# EAGLE library part ?M08B-SR (library con-jst)
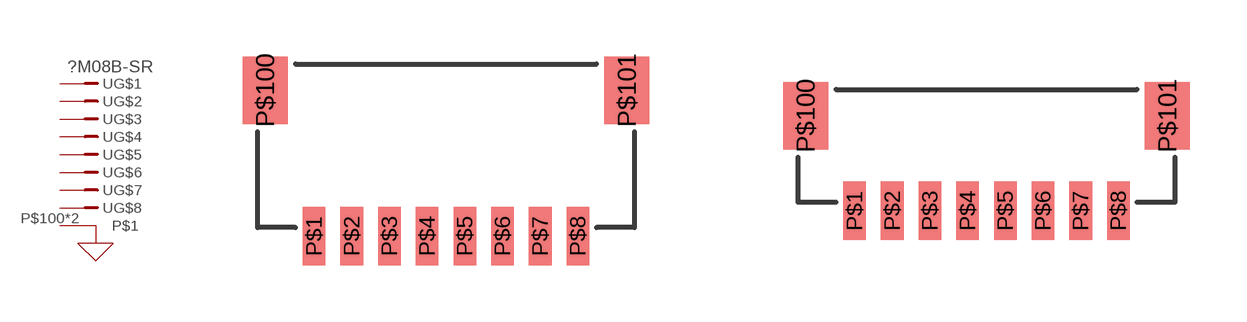
[diagram p27: symbol with the pads of SM08B-SR; footprints SM08B-SR, BM08B-SR]

Designator prefix -; gates G$1=PM-VN G$2=PM-N G$3=PM-N G$4=PM-N G$5=PM-N G$6=PM-N G$7=PM-N G$8=PM-N G$9=FRAME

## SM08B-SR  [SM08B-SR]
P$1  G$1:1  pas
P$2  G$2:1  pas
P$3  G$3:1  pas
P$4  G$4:1  pas
P$5  G$5:1  pas
P$6  G$6:1  pas
P$7  G$7:1  pas
P$8  G$8:1  pas
P$100  G$9:P$1
P$101  G$9:P$1

## BM08B-SR  [BM08B-SR]
Pads as for SM08B-SR

## Footprint SM08B-SR (pad centres in mm)
smd 0.6 x 1.55: P$1 -3.5,-4.775; P$2 -2.5,-4.775; P$3 -1.5,-4.775; P$4 -0.5,-4.775; P$5 0.5,-4.775; P$6 1.5,-4.775; P$7 2.5,-4.775; P$8 3.5,-4.775
smd 1.2 x 1.8: P$100 -4.8,-0.9; P$101 4.8,-0.9

## Footprint BM08B-SR (pad centres in mm)
smd 0.6 x 1.55: P$1 -3.5,-3.425; P$2 -2.5,-3.425; P$3 -1.5,-3.425; P$4 -0.5,-3.425; P$5 0.5,-3.425; P$6 1.5,-3.425; P$7 2.5,-3.425; P$8 3.5,-3.425
smd 1.2 x 1.8: P$100 -4.8,-0.9; P$101 4.8,-0.9